# Altium footprint library ACPL-C790-500E.PcbLib: 1 footprints
Each footprint in its own frame and in the unit in brackets; x right, y up, seen from the top. Pads: shape width x height; smd on the part's side, far side on the other; paste and mask are expansions set on the pad; w line width, h text height; cw(c..) or ccw(c..) is an arc to the next point about the centre after c.
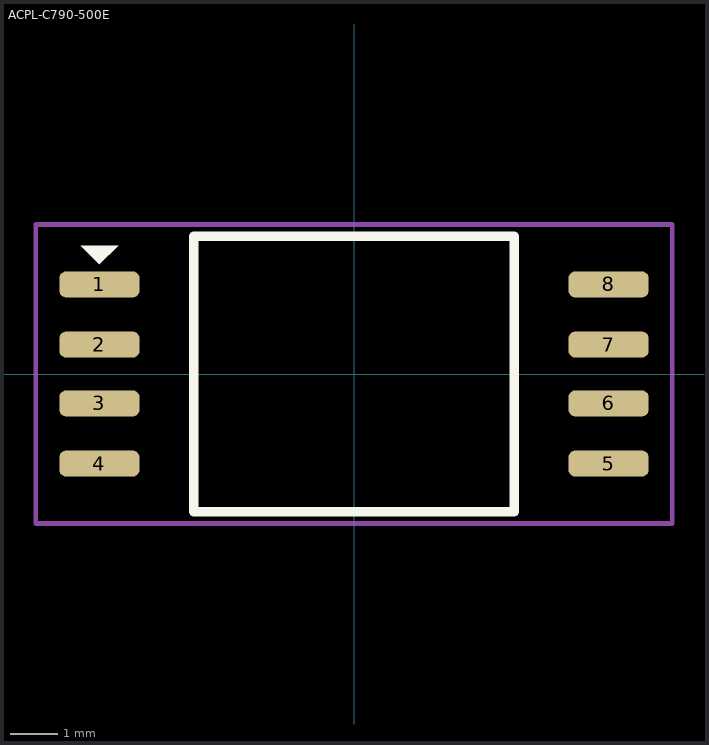
[diagram p0: the footprint, top view; thin cyan lines are the x and y axes]

## ACPL-C790-500E [mm]
pads (8):
  rrect50% 1.7x0.55 smd: 1(-5.4,1.9) 2(-5.4,0.625) 3(-5.4,-0.625) 4(-5.4,-1.9) 5(5.4,-1.9) 6(5.4,-0.625) 7(5.4,0.625) 8(5.4,1.9)
Top Overlay:
  region: -5.8,2.725 -5,2.725 -5.4,2.325
  lines w0.2: -3.4,-2.925 3.4,-2.925 3.4,2.925 -3.4,2.925 -3.4,-2.925
Top Courtyard:
  lines w0.1: -6.75,-3.171 6.75,-3.171 6.75,3.171 -6.75,3.171 -6.75,-3.171
3D body "ACPL-C799T-500E--3DModel-STEP-56544.STEP": height 3.31, standoff 0, extent -5.75,-2.925 5.75,2.925